# Altium footprint library SCD-014-A.PcbLib: 1 footprints
Each footprint in its own frame and in the unit in brackets; x right, y up, seen from the top. Pads: shape width x height; smd on the part's side, far side on the other; paste and mask are expansions set on the pad; w line width, h text height; cw(c..) or ccw(c..) is an arc to the next point about the centre after c.
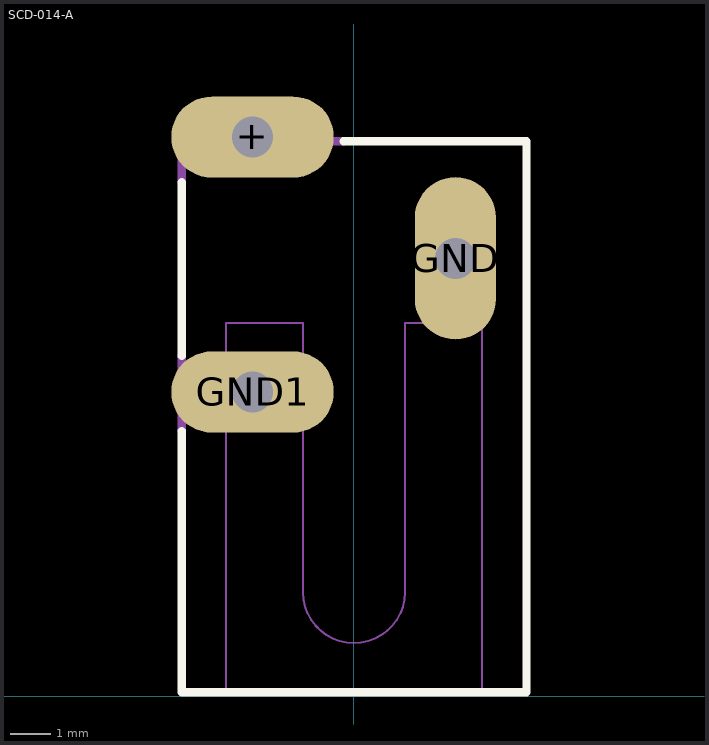
[diagram p0: the footprint, top view; thin cyan lines are the x and y axes]

## SCD-014-A [mil]
pads (3):
  oval 158x79 hole 40: +(-98.43,544) GND1(-98.43,296)
  oval 79x158 hole 40: GND(99,426)
Top Overlay:
  lines w8: -167.32,258 -167.32,4 168,4 168,540 -9.84,540 ; -167.32,331 -167.32,500
Mechanical 2:
  text "PWR_IN" at -200,0 h108.5
Mechanical 11:
  lines w0: -161.42,296 cw(c-142.07,295.66) -141.73,315 -55.12,315 cw(c-54.78,295.66) -35.43,296 cw(c-55.28,295.84) -55.12,276 -141.73,276 cw(c-141.57,295.84) -161.42,296 ; -161.42,544 cw(c-142.07,543.66) -141.73,563 -55.12,563 cw(c-54.78,543.66) -35.43,544 cw(c-55.28,543.84) -55.12,524 -141.73,524 cw(c-141.57,543.84) -161.42,544 ; 79,382 ccw(c98.5,382.5) 99,363 ccw(c99.5,382.5) 119,382 119,469 ccw(c99,469) 99,489 ccw(c99,469) 79,469 79,382
Mechanical 16:
  lines w2: -124.02,6 -124.02,363 -49.21,363 -49.21,101 ccw(c-0.11,101.11) 0,52 ccw(c0.5,101.5) 50,101 50,363 125,363 125,6
  lines w8: -167.32,258 -167.32,331 ; -167.32,500 -167.32,540 -9.84,540